# Altium integrated library Microchip Thermal Management.IntLib: 361 symbols (part 4 of 9)
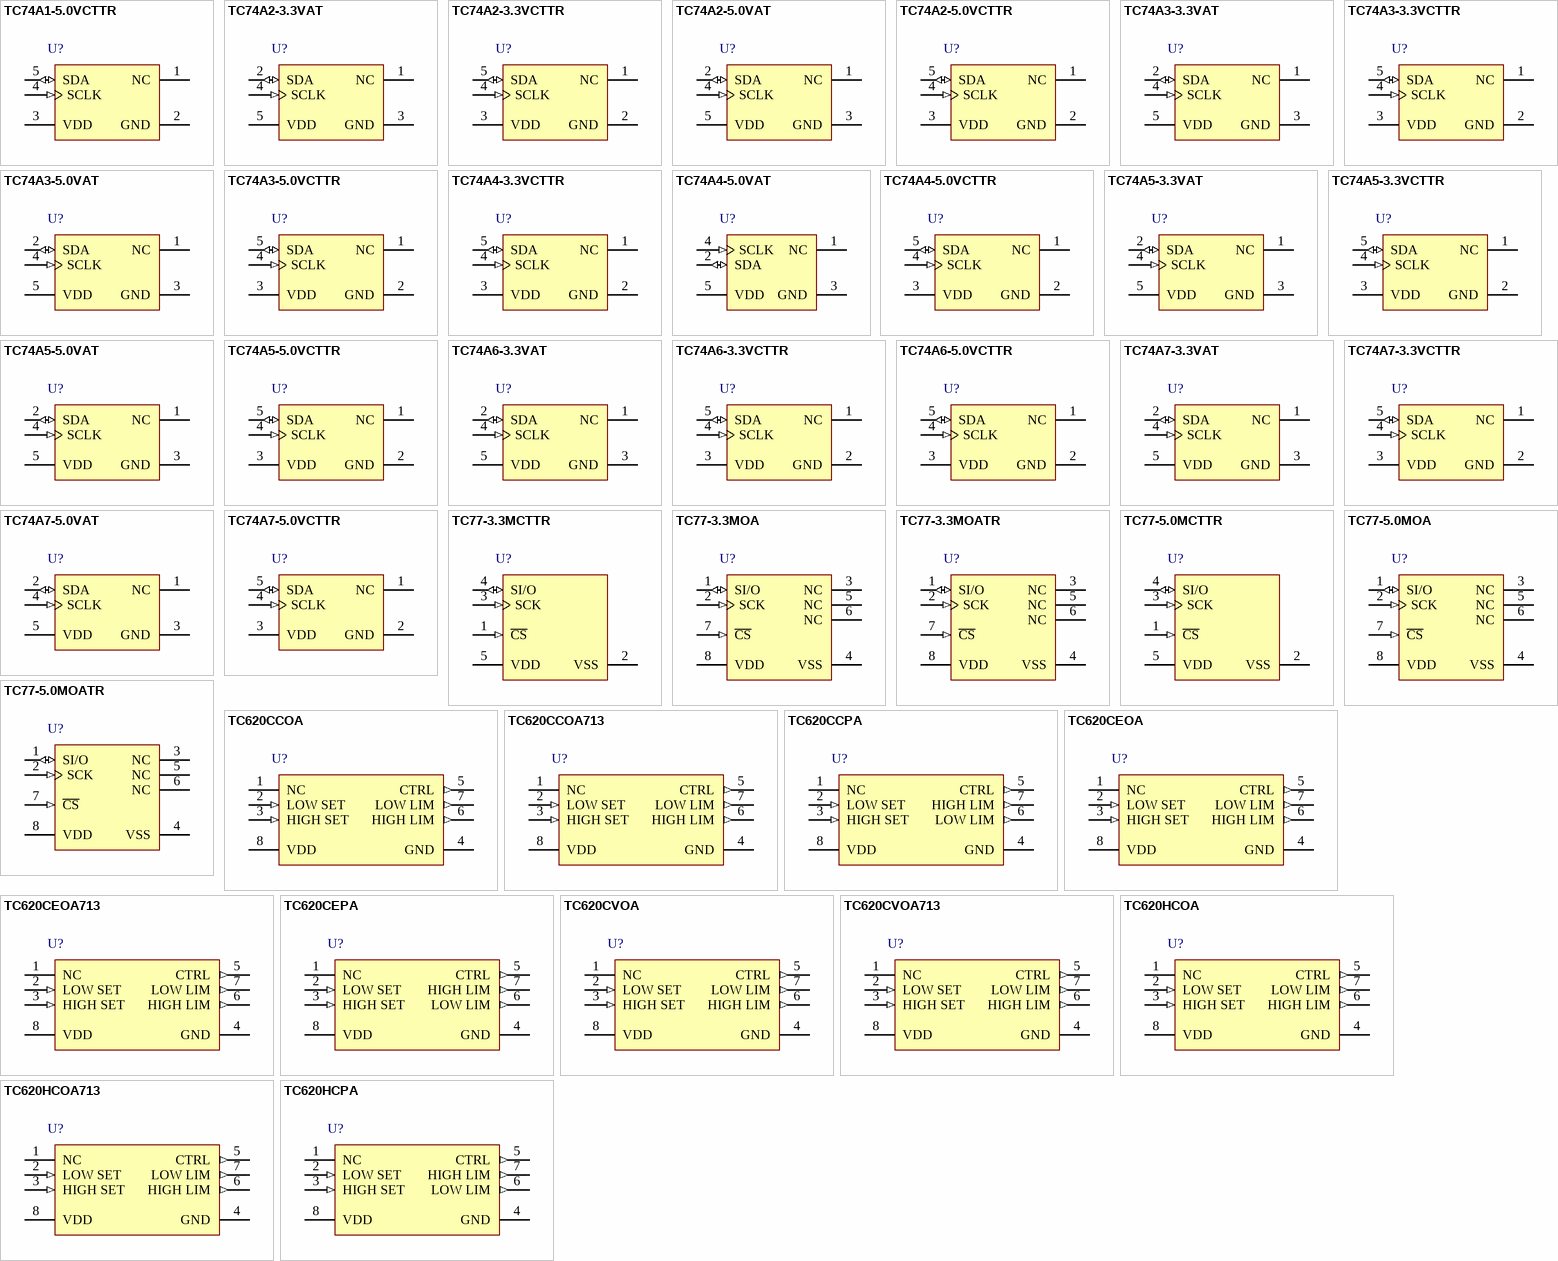
[diagram p12: symbols TC74A1-5.0VCTTR to TC620HCPA]

## TC74A3-3.3VAT
designator U?
Tiny Serial Digital Thermal Sensor, 5-Pin TO-220, Extended Temperature; Manufacturer: Microchip; PartNumber: TC74A3-3.3VAT; DatasheetVersion: revC, Oct-2002; PackageVersion: revBB, Aug-2009; PackageReference: TO-220-AT5; PackageDescription: 5-Lead Plastic Transistor Outline (AT) [TO-220]; Supplier 1: Digi-Key; Supplier Part Number 1: TC74A3-3.3VAT-ND; Mounting Technology: Through Hole; ComponentLink1Description: Manufacturer URL; ComponentLink1URL: http://www.microchip.com/; ComponentLink2Description: Datasheet; ComponentLink2URL: http://ww1.microchip.com/downloads/en/DeviceDoc/21462c.pdf; ComponentLink3Description: Package Specification; ComponentLink3URL: http://www.microchip.com/stellent/groups/techpub_sg/documents/packagingspec/en012702.pdf
footprint TO-220-AT5 (TO, Thru-Hole, Vertical, Heatsink Mounted; 5 In-Line Leads; Pitch 1.70 mm)
pins: 1 NC, 2 SDA (io), 3 GND (power), 4 SCLK (in), 5 VDD (power)

## TC74A3-3.3VCTTR
designator U?
Tiny Serial Digital Thermal Sensor, 5-Pin SOT-23, Extended Temperature, Tape and Reel; Manufacturer: Microchip; PartNumber: TC74A3-3.3VCTTR; DatasheetVersion: revC, Oct-2002; PackageVersion: revBB, Aug-2009; PackageReference: SOT-23-CT5; PackageDescription: 5-Lead Plastic Small Outline Transistor (CT) [SOT-23]; Supplier 1: Digi-Key; Supplier Part Number 1: TC74A3-3.3VCTTR-ND; Mounting Technology: Surface Mount; Code_IPC: SOT23-5; ComponentLink1Description: Manufacturer URL; ComponentLink1URL: http://www.microchip.com/; ComponentLink2Description: Datasheet; ComponentLink2URL: http://ww1.microchip.com/downloads/en/DeviceDoc/21462c.pdf; ComponentLink3Description: Package Specification; ComponentLink3URL: http://www.microchip.com/stellent/groups/techpub_sg/documents/packagingspec/en012702.pdf
footprint SOT-23-CT5_N (SOT23, 5-Leads, Body 2.9x1.6mm, Pitch 0.95mm, Lead Span 2.7mm, IPC Medium Density)
footprint SOT-23-CT5_L (SOT23, 5-Leads, Body 2.9x1.6mm, Pitch 0.95mm, Lead Span 2.7mm, IPC High Density)
footprint SOT-23-CT5_M (SOT23, 5-Leads, Body 2.9x1.6mm, Pitch 0.95mm, Lead Span 2.7mm, IPC Low Density)
pins: 1 NC, 2 GND (power), 3 VDD (power), 4 SCLK (in), 5 SDA (io)

## TC74A3-5.0VAT
designator U?
Tiny Serial Digital Thermal Sensor, 5-Pin TO-220, Extended Temperature; Manufacturer: Microchip; PartNumber: TC74A3-5.0VAT; DatasheetVersion: revC, Oct-2002; PackageVersion: revBB, Aug-2009; PackageReference: TO-220-AT5; PackageDescription: 5-Lead Plastic Transistor Outline (AT) [TO-220]; Supplier 1: Digi-Key; Supplier Part Number 1: TC74A3-5.0VAT-ND; Mounting Technology: Through Hole; ComponentLink1Description: Manufacturer URL; ComponentLink1URL: http://www.microchip.com/; ComponentLink2Description: Datasheet; ComponentLink2URL: http://ww1.microchip.com/downloads/en/DeviceDoc/21462c.pdf; ComponentLink3Description: Package Specification; ComponentLink3URL: http://www.microchip.com/stellent/groups/techpub_sg/documents/packagingspec/en012702.pdf
footprint TO-220-AT5 (TO, Thru-Hole, Vertical, Heatsink Mounted; 5 In-Line Leads; Pitch 1.70 mm)
pins: 1 NC, 2 SDA (io), 3 GND (power), 4 SCLK (in), 5 VDD (power)

## TC74A3-5.0VCTTR
designator U?
Tiny Serial Digital Thermal Sensor, 5-Pin SOT-23, Extended Temperature, Tape and Reel; Manufacturer: Microchip; PartNumber: TC74A3-5.0VCTTR; DatasheetVersion: revC, Oct-2002; PackageVersion: revBB, Aug-2009; PackageReference: SOT-23-CT5; PackageDescription: 5-Lead Plastic Small Outline Transistor (CT) [SOT-23]; Supplier 1: Digi-Key; Supplier Part Number 1: TC74A3-5.0VCTTR-ND; Mounting Technology: Surface Mount; Code_IPC: SOT23-5; ComponentLink1Description: Manufacturer URL; ComponentLink1URL: http://www.microchip.com/; ComponentLink2Description: Datasheet; ComponentLink2URL: http://ww1.microchip.com/downloads/en/DeviceDoc/21462c.pdf; ComponentLink3Description: Package Specification; ComponentLink3URL: http://www.microchip.com/stellent/groups/techpub_sg/documents/packagingspec/en012702.pdf
footprint SOT-23-CT5_N (SOT23, 5-Leads, Body 2.9x1.6mm, Pitch 0.95mm, Lead Span 2.7mm, IPC Medium Density)
footprint SOT-23-CT5_L (SOT23, 5-Leads, Body 2.9x1.6mm, Pitch 0.95mm, Lead Span 2.7mm, IPC High Density)
footprint SOT-23-CT5_M (SOT23, 5-Leads, Body 2.9x1.6mm, Pitch 0.95mm, Lead Span 2.7mm, IPC Low Density)
pins: 1 NC, 2 GND (power), 3 VDD (power), 4 SCLK (in), 5 SDA (io)

## TC74A4-3.3VCTTR
designator U?
Tiny Serial Digital Thermal Sensor, 5-Pin SOT-23, Extended Temperature, Tape and Reel; Manufacturer: Microchip; PartNumber: TC74A4-3.3VCTTR; DatasheetVersion: revC, Oct-2002; PackageVersion: revBB, Aug-2009; PackageReference: SOT-23-CT5; PackageDescription: 5-Lead Plastic Small Outline Transistor (CT) [SOT-23]; Supplier 1: Digi-Key; Supplier Part Number 1: TC74A4-3.3VCTTR-ND; Mounting Technology: Surface Mount; Code_IPC: SOT23-5; ComponentLink1Description: Manufacturer URL; ComponentLink1URL: http://www.microchip.com/; ComponentLink2Description: Datasheet; ComponentLink2URL: http://ww1.microchip.com/downloads/en/DeviceDoc/21462c.pdf; ComponentLink3Description: Package Specification; ComponentLink3URL: http://www.microchip.com/stellent/groups/techpub_sg/documents/packagingspec/en012702.pdf
footprint SOT-23-CT5_N (SOT23, 5-Leads, Body 2.9x1.6mm, Pitch 0.95mm, Lead Span 2.7mm, IPC Medium Density)
footprint SOT-23-CT5_L (SOT23, 5-Leads, Body 2.9x1.6mm, Pitch 0.95mm, Lead Span 2.7mm, IPC High Density)
footprint SOT-23-CT5_M (SOT23, 5-Leads, Body 2.9x1.6mm, Pitch 0.95mm, Lead Span 2.7mm, IPC Low Density)
pins: 1 NC, 2 GND (power), 3 VDD (power), 4 SCLK (in), 5 SDA (io)

## TC74A4-5.0VAT
designator U?
Tiny Serial Digital Thermal Sensor, 350 uA, 2.7 to 5.5 V, -40 to 125 degC, 5-pin TO-220 (AT5), Tube; Manufacturer: Microchip; PartNumber: TC74A4-5.0VAT; DatasheetVersion: Rev. C; PackageVersion: C04-036B; PackageReference: TO-220-AT5; PackageDescription: 5-Lead Plastic Transistor Outline, 8.7 x 10.16 mm Body, 1.702 mm Pitch; Supplier 1: Digi-Key; Supplier Part Number 1: TC74A4-5.0VAT-ND; Mounting Technology: Through Hole; ComponentLink1Description: Manufacturer URL; ComponentLink1URL: http://www.microchip.com; ComponentLink2Description: Datasheet; ComponentLink2URL: http://ww1.microchip.com/downloads/en/DeviceDoc/21462c.pdf; ComponentLink3Description: Package Specification; ComponentLink3URL: http://www.microchip.com/stellent/groups/techpub_sg/documents/packagingspec/en012702.pdf; ComponentLink4Description: Product URL; ComponentLink4URL: http://www.microchip.com/TC74
footprint MCHP-TO-220-AT5 (FM, 5-Leads, Body 10.16x8.7mm, Pitch 1.702mm)
pins: 1 NC "No Internal Connection", 2 SDA (io) "SMBus/I2C Serial Data", 3 GND (power) "System Ground", 4 SCLK (in) "SMBus/I2C Serial Clock", 5 VDD (power) "Power Supply Input"

## TC74A4-5.0VCTTR
designator U?
Tiny Serial Digital Thermal Sensor, 5-Pin SOT-23, Extended Temperature, Tape and Reel; Manufacturer: Microchip; PartNumber: TC74A4-5.0VCTTR; DatasheetVersion: revC, Oct-2002; PackageVersion: revBB, Aug-2009; PackageReference: SOT-23-CT5; PackageDescription: 5-Lead Plastic Small Outline Transistor (CT) [SOT-23]; Supplier 1: Digi-Key; Supplier Part Number 1: TC74A4-5.0VCTTR-ND; Mounting Technology: Surface Mount; Code_IPC: SOT23-5; ComponentLink1Description: Manufacturer URL; ComponentLink1URL: http://www.microchip.com/; ComponentLink2Description: Datasheet; ComponentLink2URL: http://ww1.microchip.com/downloads/en/DeviceDoc/21462c.pdf; ComponentLink3Description: Package Specification; ComponentLink3URL: http://www.microchip.com/stellent/groups/techpub_sg/documents/packagingspec/en012702.pdf
footprint SOT-23-CT5_N (SOT23, 5-Leads, Body 2.9x1.6mm, Pitch 0.95mm, Lead Span 2.7mm, IPC Medium Density)
footprint SOT-23-CT5_L (SOT23, 5-Leads, Body 2.9x1.6mm, Pitch 0.95mm, Lead Span 2.7mm, IPC High Density)
footprint SOT-23-CT5_M (SOT23, 5-Leads, Body 2.9x1.6mm, Pitch 0.95mm, Lead Span 2.7mm, IPC Low Density)
pins: 1 NC, 2 GND (power), 3 VDD (power), 4 SCLK (in), 5 SDA (io)

## TC74A5-3.3VAT
designator U?
Tiny Serial Digital Thermal Sensor, 5-Pin TO-220, Extended Temperature; Manufacturer: Microchip; PartNumber: TC74A5-3.3VAT; DatasheetVersion: revC, Oct-2002; PackageVersion: revBB, Aug-2009; PackageReference: TO-220-AT5; PackageDescription: 5-Lead Plastic Transistor Outline (AT) [TO-220]; Supplier 1: Digi-Key; Supplier Part Number 1: TC74A5-3.3VAT-ND; Mounting Technology: Through Hole; ComponentLink1Description: Manufacturer URL; ComponentLink1URL: http://www.microchip.com/; ComponentLink2Description: Datasheet; ComponentLink2URL: http://ww1.microchip.com/downloads/en/DeviceDoc/21462c.pdf; ComponentLink3Description: Package Specification; ComponentLink3URL: http://www.microchip.com/stellent/groups/techpub_sg/documents/packagingspec/en012702.pdf
footprint TO-220-AT5 (TO, Thru-Hole, Vertical, Heatsink Mounted; 5 In-Line Leads; Pitch 1.70 mm)
pins: 1 NC, 2 SDA (io), 3 GND (power), 4 SCLK (in), 5 VDD (power)

## TC74A5-3.3VCTTR
designator U?
Tiny Serial Digital Thermal Sensor, 5-Pin SOT-23, Extended Temperature, Tape and Reel; Manufacturer: Microchip; PartNumber: TC74A5-3.3VCTTR; DatasheetVersion: revC, Oct-2002; PackageVersion: revBB, Aug-2009; PackageReference: SOT-23-CT5; PackageDescription: 5-Lead Plastic Small Outline Transistor (CT) [SOT-23]; Supplier 1: Digi-Key; Supplier Part Number 1: TC74A5-3.3VCTTR-ND; Mounting Technology: Surface Mount; Code_IPC: SOT23-5; ComponentLink1Description: Manufacturer URL; ComponentLink1URL: http://www.microchip.com/; ComponentLink2Description: Datasheet; ComponentLink2URL: http://ww1.microchip.com/downloads/en/DeviceDoc/21462c.pdf; ComponentLink3Description: Package Specification; ComponentLink3URL: http://www.microchip.com/stellent/groups/techpub_sg/documents/packagingspec/en012702.pdf
footprint SOT-23-CT5_N (SOT23, 5-Leads, Body 2.9x1.6mm, Pitch 0.95mm, Lead Span 2.7mm, IPC Medium Density)
footprint SOT-23-CT5_L (SOT23, 5-Leads, Body 2.9x1.6mm, Pitch 0.95mm, Lead Span 2.7mm, IPC High Density)
footprint SOT-23-CT5_M (SOT23, 5-Leads, Body 2.9x1.6mm, Pitch 0.95mm, Lead Span 2.7mm, IPC Low Density)
pins: 1 NC, 2 GND (power), 3 VDD (power), 4 SCLK (in), 5 SDA (io)

## TC74A5-5.0VAT
designator U?
Tiny Serial Digital Thermal Sensor, 5-Pin TO-220, Extended Temperature; Manufacturer: Microchip; PartNumber: TC74A5-5.0VAT; DatasheetVersion: revC, Oct-2002; PackageVersion: revBB, Aug-2009; PackageReference: TO-220-AT5; PackageDescription: 5-Lead Plastic Transistor Outline (AT) [TO-220]; Supplier 1: Digi-Key; Supplier Part Number 1: TC74A5-5.0VAT-ND; Mounting Technology: Through Hole; ComponentLink1Description: Manufacturer URL; ComponentLink1URL: http://www.microchip.com/; ComponentLink2Description: Datasheet; ComponentLink2URL: http://ww1.microchip.com/downloads/en/DeviceDoc/21462c.pdf; ComponentLink3Description: Package Specification; ComponentLink3URL: http://www.microchip.com/stellent/groups/techpub_sg/documents/packagingspec/en012702.pdf
footprint TO-220-AT5 (TO, Thru-Hole, Vertical, Heatsink Mounted; 5 In-Line Leads; Pitch 1.70 mm)
pins: 1 NC, 2 SDA (io), 3 GND (power), 4 SCLK (in), 5 VDD (power)

## TC74A5-5.0VCTTR
designator U?
Tiny Serial Digital Thermal Sensor, 5-Pin SOT-23, Extended Temperature, Tape and Reel; Manufacturer: Microchip; PartNumber: TC74A5-5.0VCTTR; DatasheetVersion: revC, Oct-2002; PackageVersion: revBB, Aug-2009; PackageReference: SOT-23-CT5; PackageDescription: 5-Lead Plastic Small Outline Transistor (CT) [SOT-23]; Supplier 1: Digi-Key; Supplier Part Number 1: TC74A5-5.0VCTTR-ND; Mounting Technology: Surface Mount; Code_IPC: SOT23-5; ComponentLink1Description: Manufacturer URL; ComponentLink1URL: http://www.microchip.com/; ComponentLink2Description: Datasheet; ComponentLink2URL: http://ww1.microchip.com/downloads/en/DeviceDoc/21462c.pdf; ComponentLink3Description: Package Specification; ComponentLink3URL: http://www.microchip.com/stellent/groups/techpub_sg/documents/packagingspec/en012702.pdf
footprint SOT-23-CT5_N (SOT23, 5-Leads, Body 2.9x1.6mm, Pitch 0.95mm, Lead Span 2.7mm, IPC Medium Density)
footprint SOT-23-CT5_L (SOT23, 5-Leads, Body 2.9x1.6mm, Pitch 0.95mm, Lead Span 2.7mm, IPC High Density)
footprint SOT-23-CT5_M (SOT23, 5-Leads, Body 2.9x1.6mm, Pitch 0.95mm, Lead Span 2.7mm, IPC Low Density)
pins: 1 NC, 2 GND (power), 3 VDD (power), 4 SCLK (in), 5 SDA (io)

## TC74A6-3.3VAT
designator U?
Tiny Serial Digital Thermal Sensor, 5-Pin TO-220, Extended Temperature; Manufacturer: Microchip; PartNumber: TC74A6-3.3VAT; DatasheetVersion: revC, Oct-2002; PackageVersion: revBB, Aug-2009; PackageReference: TO-220-AT5; PackageDescription: 5-Lead Plastic Transistor Outline (AT) [TO-220]; Supplier 1: Digi-Key; Supplier Part Number 1: TC74A6-3.3VAT-ND; Mounting Technology: Through Hole; ComponentLink1Description: Manufacturer URL; ComponentLink1URL: http://www.microchip.com/; ComponentLink2Description: Datasheet; ComponentLink2URL: http://ww1.microchip.com/downloads/en/DeviceDoc/21462c.pdf; ComponentLink3Description: Package Specification; ComponentLink3URL: http://www.microchip.com/stellent/groups/techpub_sg/documents/packagingspec/en012702.pdf
footprint TO-220-AT5 (TO, Thru-Hole, Vertical, Heatsink Mounted; 5 In-Line Leads; Pitch 1.70 mm)
pins: 1 NC, 2 SDA (io), 3 GND (power), 4 SCLK (in), 5 VDD (power)

## TC74A6-3.3VCTTR
designator U?
Tiny Serial Digital Thermal Sensor, 5-Pin SOT-23, Extended Temperature, Tape and Reel; Manufacturer: Microchip; PartNumber: TC74A6-3.3VCTTR; DatasheetVersion: revC, Oct-2002; PackageVersion: revBB, Aug-2009; PackageReference: SOT-23-CT5; PackageDescription: 5-Lead Plastic Small Outline Transistor (CT) [SOT-23]; Supplier 1: Digi-Key; Supplier Part Number 1: TC74A6-3.3VCTTR-ND; Mounting Technology: Surface Mount; Code_IPC: SOT23-5; ComponentLink1Description: Manufacturer URL; ComponentLink1URL: http://www.microchip.com/; ComponentLink2Description: Datasheet; ComponentLink2URL: http://ww1.microchip.com/downloads/en/DeviceDoc/21462c.pdf; ComponentLink3Description: Package Specification; ComponentLink3URL: http://www.microchip.com/stellent/groups/techpub_sg/documents/packagingspec/en012702.pdf
footprint SOT-23-CT5_N (SOT23, 5-Leads, Body 2.9x1.6mm, Pitch 0.95mm, Lead Span 2.7mm, IPC Medium Density)
footprint SOT-23-CT5_L (SOT23, 5-Leads, Body 2.9x1.6mm, Pitch 0.95mm, Lead Span 2.7mm, IPC High Density)
footprint SOT-23-CT5_M (SOT23, 5-Leads, Body 2.9x1.6mm, Pitch 0.95mm, Lead Span 2.7mm, IPC Low Density)
pins: 1 NC, 2 GND (power), 3 VDD (power), 4 SCLK (in), 5 SDA (io)

## TC74A6-5.0VCTTR
designator U?
Tiny Serial Digital Thermal Sensor, 5-Pin SOT-23, Extended Temperature, Tape and Reel; Manufacturer: Microchip; PartNumber: TC74A6-5.0VCTTR; DatasheetVersion: revC, Oct-2002; PackageVersion: revBB, Aug-2009; PackageReference: SOT-23-CT5; PackageDescription: 5-Lead Plastic Small Outline Transistor (CT) [SOT-23]; Supplier 1: Digi-Key; Supplier Part Number 1: TC74A6-5.0VCTTR-ND; Mounting Technology: Surface Mount; Code_IPC: SOT23-5; ComponentLink1Description: Manufacturer URL; ComponentLink1URL: http://www.microchip.com/; ComponentLink2Description: Datasheet; ComponentLink2URL: http://ww1.microchip.com/downloads/en/DeviceDoc/21462c.pdf; ComponentLink3Description: Package Specification; ComponentLink3URL: http://www.microchip.com/stellent/groups/techpub_sg/documents/packagingspec/en012702.pdf
footprint SOT-23-CT5_N (SOT23, 5-Leads, Body 2.9x1.6mm, Pitch 0.95mm, Lead Span 2.7mm, IPC Medium Density)
footprint SOT-23-CT5_L (SOT23, 5-Leads, Body 2.9x1.6mm, Pitch 0.95mm, Lead Span 2.7mm, IPC High Density)
footprint SOT-23-CT5_M (SOT23, 5-Leads, Body 2.9x1.6mm, Pitch 0.95mm, Lead Span 2.7mm, IPC Low Density)
pins: 1 NC, 2 GND (power), 3 VDD (power), 4 SCLK (in), 5 SDA (io)

## TC74A7-3.3VAT
designator U?
Tiny Serial Digital Thermal Sensor, 5-Pin TO-220, Extended Temperature; Manufacturer: Microchip; PartNumber: TC74A7-3.3VAT; DatasheetVersion: revC, Oct-2002; PackageVersion: revBB, Aug-2009; PackageReference: TO-220-AT5; PackageDescription: 5-Lead Plastic Transistor Outline (AT) [TO-220]; Supplier 1: Digi-Key; Supplier Part Number 1: TC74A7-3.3VAT-ND; Mounting Technology: Through Hole; ComponentLink1Description: Manufacturer URL; ComponentLink1URL: http://www.microchip.com/; ComponentLink2Description: Datasheet; ComponentLink2URL: http://ww1.microchip.com/downloads/en/DeviceDoc/21462c.pdf; ComponentLink3Description: Package Specification; ComponentLink3URL: http://www.microchip.com/stellent/groups/techpub_sg/documents/packagingspec/en012702.pdf
footprint TO-220-AT5 (TO, Thru-Hole, Vertical, Heatsink Mounted; 5 In-Line Leads; Pitch 1.70 mm)
pins: 1 NC, 2 SDA (io), 3 GND (power), 4 SCLK (in), 5 VDD (power)

## TC74A7-3.3VCTTR
designator U?
Tiny Serial Digital Thermal Sensor, 5-Pin SOT-23, Extended Temperature, Tape and Reel; Manufacturer: Microchip; PartNumber: TC74A7-3.3VCTTR; DatasheetVersion: revC, Oct-2002; PackageVersion: revBB, Aug-2009; PackageReference: SOT-23-CT5; PackageDescription: 5-Lead Plastic Small Outline Transistor (CT) [SOT-23]; Supplier 1: Digi-Key; Supplier Part Number 1: TC74A7-3.3VCTTR-ND; Mounting Technology: Surface Mount; Code_IPC: SOT23-5; ComponentLink1Description: Manufacturer URL; ComponentLink1URL: http://www.microchip.com/; ComponentLink2Description: Datasheet; ComponentLink2URL: http://ww1.microchip.com/downloads/en/DeviceDoc/21462c.pdf; ComponentLink3Description: Package Specification; ComponentLink3URL: http://www.microchip.com/stellent/groups/techpub_sg/documents/packagingspec/en012702.pdf
footprint SOT-23-CT5_N (SOT23, 5-Leads, Body 2.9x1.6mm, Pitch 0.95mm, Lead Span 2.7mm, IPC Medium Density)
footprint SOT-23-CT5_L (SOT23, 5-Leads, Body 2.9x1.6mm, Pitch 0.95mm, Lead Span 2.7mm, IPC High Density)
footprint SOT-23-CT5_M (SOT23, 5-Leads, Body 2.9x1.6mm, Pitch 0.95mm, Lead Span 2.7mm, IPC Low Density)
pins: 1 NC, 2 GND (power), 3 VDD (power), 4 SCLK (in), 5 SDA (io)

## TC74A7-5.0VAT
designator U?
Tiny Serial Digital Thermal Sensor, 5-Pin TO-220, Extended Temperature; Manufacturer: Microchip; PartNumber: TC74A7-5.0VAT; DatasheetVersion: revC, Oct-2002; PackageVersion: revBB, Aug-2009; PackageReference: TO-220-AT5; PackageDescription: 5-Lead Plastic Transistor Outline (AT) [TO-220]; Supplier 1: Digi-Key; Supplier Part Number 1: TC74A7-5.0VAT-ND; Mounting Technology: Through Hole; ComponentLink1Description: Manufacturer URL; ComponentLink1URL: http://www.microchip.com/; ComponentLink2Description: Datasheet; ComponentLink2URL: http://ww1.microchip.com/downloads/en/DeviceDoc/21462c.pdf; ComponentLink3Description: Package Specification; ComponentLink3URL: http://www.microchip.com/stellent/groups/techpub_sg/documents/packagingspec/en012702.pdf
footprint TO-220-AT5 (TO, Thru-Hole, Vertical, Heatsink Mounted; 5 In-Line Leads; Pitch 1.70 mm)
pins: 1 NC, 2 SDA (io), 3 GND (power), 4 SCLK (in), 5 VDD (power)

## TC74A7-5.0VCTTR
designator U?
Tiny Serial Digital Thermal Sensor, 5-Pin SOT-23, Extended Temperature, Tape and Reel; Manufacturer: Microchip; PartNumber: TC74A7-5.0VCTTR; DatasheetVersion: revC, Oct-2002; PackageVersion: revBB, Aug-2009; PackageReference: SOT-23-CT5; PackageDescription: 5-Lead Plastic Small Outline Transistor (CT) [SOT-23]; Supplier 1: Digi-Key; Supplier Part Number 1: TC74A7-5.0VCTTR-ND; Mounting Technology: Surface Mount; Code_IPC: SOT23-5; ComponentLink1Description: Manufacturer URL; ComponentLink1URL: http://www.microchip.com/; ComponentLink2Description: Datasheet; ComponentLink2URL: http://ww1.microchip.com/downloads/en/DeviceDoc/21462c.pdf; ComponentLink3Description: Package Specification; ComponentLink3URL: http://www.microchip.com/stellent/groups/techpub_sg/documents/packagingspec/en012702.pdf
footprint SOT-23-CT5_N (SOT23, 5-Leads, Body 2.9x1.6mm, Pitch 0.95mm, Lead Span 2.7mm, IPC Medium Density)
footprint SOT-23-CT5_L (SOT23, 5-Leads, Body 2.9x1.6mm, Pitch 0.95mm, Lead Span 2.7mm, IPC High Density)
footprint SOT-23-CT5_M (SOT23, 5-Leads, Body 2.9x1.6mm, Pitch 0.95mm, Lead Span 2.7mm, IPC Low Density)
pins: 1 NC, 2 GND (power), 3 VDD (power), 4 SCLK (in), 5 SDA (io)

## TC77-3.3MCTTR
designator U?
Thermal Sensor with SPI Interface, 5-Pin SOT-23, -55°C to +125°C Temperature, Tape and Reel; Manufacturer: Microchip; PartNumber: TC77-3.3MCTTR; DatasheetVersion: revA, Aug-2002; PackageVersion: revBB, Aug-2009; PackageReference: SOT-23-CT5; PackageDescription: 5-Lead Plastic Small Outline Transistor (CT) [SOT-23]; Supplier 1: Digi-Key; Supplier Part Number 1: TC77-3.3MCTTRTR-ND; Mounting Technology: Surface Mount; Code_IPC: SOT23-5; ComponentLink1Description: Manufacturer URL; ComponentLink1URL: http://www.microchip.com/; ComponentLink2Description: Datasheet; ComponentLink2URL: http://ww1.microchip.com/downloads/en/DeviceDoc/20092a.pdf; ComponentLink3Description: Package Specification; ComponentLink3URL: http://www.microchip.com/stellent/groups/techpub_sg/documents/packagingspec/en012702.pdf
footprint SOT-23-CT5_N (SOT23, 5-Leads, Body 2.9x1.6mm, Pitch 0.95mm, Lead Span 2.7mm, IPC Medium Density)
footprint SOT-23-CT5_L (SOT23, 5-Leads, Body 2.9x1.6mm, Pitch 0.95mm, Lead Span 2.7mm, IPC High Density)
footprint SOT-23-CT5_M (SOT23, 5-Leads, Body 2.9x1.6mm, Pitch 0.95mm, Lead Span 2.7mm, IPC Low Density)
pins: 1 ~{CS} (in), 2 VSS (power), 3 SCK (in), 4 SI/O (io), 5 VDD (power)

## TC77-3.3MOA
designator U?
Thermal Sensor with SPI Interface, 8-Pin SOIC, -55°C to +125°C Temperature; Manufacturer: Microchip; PartNumber: TC77-3.3MOA; DatasheetVersion: revA, Aug-2002; PackageVersion: revBB, Aug-2009; PackageReference: SOIC-OA8; PackageDescription: 8-Lead Plastic Small Outline (OA) - Narrow, 3.90mm Body [SOIC]; Supplier 1: Digi-Key; Supplier Part Number 1: TC77-3.3MOA-ND; Mounting Technology: Surface Mount; Code_IPC: SOIC127P600-8; ComponentLink1Description: Manufacturer URL; ComponentLink1URL: http://www.microchip.com/; ComponentLink2Description: Datasheet; ComponentLink2URL: http://ww1.microchip.com/downloads/en/DeviceDoc/20092a.pdf; ComponentLink3Description: Package Specification; ComponentLink3URL: http://www.microchip.com/stellent/groups/techpub_sg/documents/packagingspec/en012702.pdf
footprint SOIC-OA8_N (SOIC, 8-Leads, Body 4.9x3.9mm, Pitch 1.27mm, IPC Medium Density)
footprint SOIC-OA8_L (SOIC, 8-Leads, Body 4.9x3.9mm, Pitch 1.27mm, IPC High Density)
footprint SOIC-OA8_M (SOIC, 8-Leads, Body 4.9x3.9mm, Pitch 1.27mm, IPC Low Density)
pins: 1 SI/O (io), 2 SCK (in), 3 NC, 4 VSS (power), 5 NC, 6 NC, 7 ~{CS} (in), 8 VDD (power)

## TC77-3.3MOATR
designator U?
Thermal Sensor with SPI Interface, 8-Pin SOIC, -55°C to +125°C Temperature, Tape and Reel; Manufacturer: Microchip; PartNumber: TC77-3.3MOATR; DatasheetVersion: revA, Aug-2002; PackageVersion: revBB, Aug-2009; PackageReference: SOIC-OA8; PackageDescription: 8-Lead Plastic Small Outline (OA) - Narrow, 3.90mm Body [SOIC]; Supplier 1: Digi-Key; Supplier Part Number 1: TC77-3.3MOATR-ND; Mounting Technology: Surface Mount; Code_IPC: SOIC127P600-8; ComponentLink1Description: Manufacturer URL; ComponentLink1URL: http://www.microchip.com/; ComponentLink2Description: Datasheet; ComponentLink2URL: http://ww1.microchip.com/downloads/en/DeviceDoc/20092a.pdf; ComponentLink3Description: Package Specification; ComponentLink3URL: http://www.microchip.com/stellent/groups/techpub_sg/documents/packagingspec/en012702.pdf
footprint SOIC-OA8_N (SOIC, 8-Leads, Body 4.9x3.9mm, Pitch 1.27mm, IPC Medium Density)
footprint SOIC-OA8_L (SOIC, 8-Leads, Body 4.9x3.9mm, Pitch 1.27mm, IPC High Density)
footprint SOIC-OA8_M (SOIC, 8-Leads, Body 4.9x3.9mm, Pitch 1.27mm, IPC Low Density)
pins: 1 SI/O (io), 2 SCK (in), 3 NC, 4 VSS (power), 5 NC, 6 NC, 7 ~{CS} (in), 8 VDD (power)

## TC77-5.0MCTTR
designator U?
Thermal Sensor with SPI Interface, 5-Pin SOT-23, -55°C to +125°C Temperature, Tape and Reel; Manufacturer: Microchip; PartNumber: TC77-5.0MCTTR; DatasheetVersion: revA, Aug-2002; PackageVersion: revBB, Aug-2009; PackageReference: SOT-23-CT5; PackageDescription: 5-Lead Plastic Small Outline Transistor (CT) [SOT-23]; Supplier 1: Digi-Key; Supplier Part Number 1: TC77-5.0MCTTRTR-ND; Mounting Technology: Surface Mount; Code_IPC: SOT23-5; ComponentLink1Description: Manufacturer URL; ComponentLink1URL: http://www.microchip.com/; ComponentLink2Description: Datasheet; ComponentLink2URL: http://ww1.microchip.com/downloads/en/DeviceDoc/20092a.pdf; ComponentLink3Description: Package Specification; ComponentLink3URL: http://www.microchip.com/stellent/groups/techpub_sg/documents/packagingspec/en012702.pdf
footprint SOT-23-CT5_N (SOT23, 5-Leads, Body 2.9x1.6mm, Pitch 0.95mm, Lead Span 2.7mm, IPC Medium Density)
footprint SOT-23-CT5_L (SOT23, 5-Leads, Body 2.9x1.6mm, Pitch 0.95mm, Lead Span 2.7mm, IPC High Density)
footprint SOT-23-CT5_M (SOT23, 5-Leads, Body 2.9x1.6mm, Pitch 0.95mm, Lead Span 2.7mm, IPC Low Density)
pins: 1 ~{CS} (in), 2 VSS (power), 3 SCK (in), 4 SI/O (io), 5 VDD (power)

## TC77-5.0MOA
designator U?
Thermal Sensor with SPI Interface, 8-Pin SOIC, -55°C to +125°C Temperature; Manufacturer: Microchip; PartNumber: TC77-5.0MOA; DatasheetVersion: revA, Aug-2002; PackageVersion: revBB, Aug-2009; PackageReference: SOIC-OA8; PackageDescription: 8-Lead Plastic Small Outline (OA) - Narrow, 3.90mm Body [SOIC]; Supplier 1: Digi-Key; Supplier Part Number 1: TC77-5.0MOA-ND; Mounting Technology: Surface Mount; Code_IPC: SOIC127P600-8; ComponentLink1Description: Manufacturer URL; ComponentLink1URL: http://www.microchip.com/; ComponentLink2Description: Datasheet; ComponentLink2URL: http://ww1.microchip.com/downloads/en/DeviceDoc/20092a.pdf; ComponentLink3Description: Package Specification; ComponentLink3URL: http://www.microchip.com/stellent/groups/techpub_sg/documents/packagingspec/en012702.pdf
footprint SOIC-OA8_N (SOIC, 8-Leads, Body 4.9x3.9mm, Pitch 1.27mm, IPC Medium Density)
footprint SOIC-OA8_L (SOIC, 8-Leads, Body 4.9x3.9mm, Pitch 1.27mm, IPC High Density)
footprint SOIC-OA8_M (SOIC, 8-Leads, Body 4.9x3.9mm, Pitch 1.27mm, IPC Low Density)
pins: 1 SI/O (io), 2 SCK (in), 3 NC, 4 VSS (power), 5 NC, 6 NC, 7 ~{CS} (in), 8 VDD (power)

## TC77-5.0MOATR
designator U?
Thermal Sensor with SPI Interface, 8-Pin SOIC, -55°C to +125°C Temperature, Tape and Reel; Manufacturer: Microchip; PartNumber: TC77-5.0MOATR; DatasheetVersion: revA, Aug-2002; PackageVersion: revBB, Aug-2009; PackageReference: SOIC-OA8; PackageDescription: 8-Lead Plastic Small Outline (OA) - Narrow, 3.90mm Body [SOIC]; Supplier 1: Digi-Key; Supplier Part Number 1: TC77-5.0MOATR-ND; Mounting Technology: Surface Mount; Code_IPC: SOIC127P600-8; ComponentLink1Description: Manufacturer URL; ComponentLink1URL: http://www.microchip.com/; ComponentLink2Description: Datasheet; ComponentLink2URL: http://ww1.microchip.com/downloads/en/DeviceDoc/20092a.pdf; ComponentLink3Description: Package Specification; ComponentLink3URL: http://www.microchip.com/stellent/groups/techpub_sg/documents/packagingspec/en012702.pdf
footprint SOIC-OA8_N (SOIC, 8-Leads, Body 4.9x3.9mm, Pitch 1.27mm, IPC Medium Density)
footprint SOIC-OA8_L (SOIC, 8-Leads, Body 4.9x3.9mm, Pitch 1.27mm, IPC High Density)
footprint SOIC-OA8_M (SOIC, 8-Leads, Body 4.9x3.9mm, Pitch 1.27mm, IPC Low Density)
pins: 1 SI/O (io), 2 SCK (in), 3 NC, 4 VSS (power), 5 NC, 6 NC, 7 ~{CS} (in), 8 VDD (power)

## TC620CCOA
designator U?
5V, Dual Trip Point Temperature Sensor, 8-Pin SOIC, Commercial Temperature; Manufacturer: Microchip; PartNumber: TC620CCOA; DatasheetVersion: revC, Oct-2005; PackageVersion: revBB, Aug-2009; PackageReference: SOIC-OA8; PackageDescription: 8-Lead Plastic Small Outline (OA) - Narrow, 3.90mm Body [SOIC]; Supplier 1: Digi-Key; Supplier Part Number 1: TC620CCOA-ND; Mounting Technology: Surface Mount; Code_IPC: SOIC127P600-8; ComponentLink1Description: Manufacturer URL; ComponentLink1URL: http://www.microchip.com/; ComponentLink2Description: Datasheet; ComponentLink2URL: http://ww1.microchip.com/downloads/en/DeviceDoc/21439C.pdf; ComponentLink3Description: Package Specification; ComponentLink3URL: http://www.microchip.com/stellent/groups/techpub_sg/documents/packagingspec/en012702.pdf
footprint SOIC-OA8_N (SOIC, 8-Leads, Body 4.9x3.9mm, Pitch 1.27mm, IPC Medium Density)
footprint SOIC-OA8_L (SOIC, 8-Leads, Body 4.9x3.9mm, Pitch 1.27mm, IPC High Density)
footprint SOIC-OA8_M (SOIC, 8-Leads, Body 4.9x3.9mm, Pitch 1.27mm, IPC Low Density)
pins: 1 NC, 2 LOW SET (in), 3 HIGH SET (in), 4 GND (power), 5 CTRL (out), 6 HIGH LIM (out), 7 LOW LIM (out), 8 VDD (power)

## TC620CCOA713
designator U?
5V, Dual Trip Point Temperature Sensor, 8-Pin SOIC, Commercial Temperature, Tape and Reel; Manufacturer: Microchip; PartNumber: TC620CCOA713; DatasheetVersion: revC, Oct-2005; PackageVersion: revBB, Aug-2009; PackageReference: SOIC-OA8; PackageDescription: 8-Lead Plastic Small Outline (OA) - Narrow, 3.90mm Body [SOIC]; Supplier 1: Digi-Key; Supplier Part Number 1: TC620CCOA713-ND; Mounting Technology: Surface Mount; Code_IPC: SOIC127P600-8; ComponentLink1Description: Manufacturer URL; ComponentLink1URL: http://www.microchip.com/; ComponentLink2Description: Datasheet; ComponentLink2URL: http://ww1.microchip.com/downloads/en/DeviceDoc/21439C.pdf; ComponentLink3Description: Package Specification; ComponentLink3URL: http://www.microchip.com/stellent/groups/techpub_sg/documents/packagingspec/en012702.pdf
footprint SOIC-OA8_N (SOIC, 8-Leads, Body 4.9x3.9mm, Pitch 1.27mm, IPC Medium Density)
footprint SOIC-OA8_L (SOIC, 8-Leads, Body 4.9x3.9mm, Pitch 1.27mm, IPC High Density)
footprint SOIC-OA8_M (SOIC, 8-Leads, Body 4.9x3.9mm, Pitch 1.27mm, IPC Low Density)
pins: 1 NC, 2 LOW SET (in), 3 HIGH SET (in), 4 GND (power), 5 CTRL (out), 6 HIGH LIM (out), 7 LOW LIM (out), 8 VDD (power)

## TC620CCPA
designator U?
5V, Dual Trip Point Temperature Sensor, 8-Pin PDIP, Commercial Temperature; Manufacturer: Microchip; PartNumber: TC620CCPA; DatasheetVersion: revC, Oct-2005; PackageVersion: revBB, Aug-2009; PackageReference: PDIP300-PA8; PackageDescription: 8-Lead Plastic Dual In-Line (PA) - 300 mil Body [PDIP]; Supplier 1: Digi-Key; Supplier Part Number 1: TC620CCPA-ND; Mounting Technology: Through Hole; Code_JEDEC: MS-001-BA; ComponentLink1Description: Manufacturer URL; ComponentLink1URL: http://www.microchip.com/; ComponentLink2Description: Datasheet; ComponentLink2URL: http://ww1.microchip.com/downloads/en/DeviceDoc/21439C.pdf; ComponentLink3Description: Package Specification; ComponentLink3URL: http://www.microchip.com/stellent/groups/techpub_sg/documents/packagingspec/en012702.pdf
footprint PDIP300-PA8 (DIP, 8-Leads, Row Spacing 7.62mm, Pitch 2.54mm, Body 9.5x6.6mm)
pins: 1 NC, 2 LOW SET (in), 3 HIGH SET (in), 4 GND (power), 5 CTRL (out), 6 LOW LIM (out), 7 HIGH LIM (out), 8 VDD (power)

## TC620CEOA
designator U?
5V, Dual Trip Point Temperature Sensor, 8-Pin SOIC, Industrial Temperature; Manufacturer: Microchip; PartNumber: TC620CEOA; DatasheetVersion: revC, Oct-2005; PackageVersion: revBB, Aug-2009; PackageReference: SOIC-OA8; PackageDescription: 8-Lead Plastic Small Outline (OA) - Narrow, 3.90mm Body [SOIC]; Supplier 1: Digi-Key; Supplier Part Number 1: TC620CEOA-ND; Mounting Technology: Surface Mount; Code_IPC: SOIC127P600-8; ComponentLink1Description: Manufacturer URL; ComponentLink1URL: http://www.microchip.com/; ComponentLink2Description: Datasheet; ComponentLink2URL: http://ww1.microchip.com/downloads/en/DeviceDoc/21439C.pdf; ComponentLink3Description: Package Specification; ComponentLink3URL: http://www.microchip.com/stellent/groups/techpub_sg/documents/packagingspec/en012702.pdf
footprint SOIC-OA8_N (SOIC, 8-Leads, Body 4.9x3.9mm, Pitch 1.27mm, IPC Medium Density)
footprint SOIC-OA8_L (SOIC, 8-Leads, Body 4.9x3.9mm, Pitch 1.27mm, IPC High Density)
footprint SOIC-OA8_M (SOIC, 8-Leads, Body 4.9x3.9mm, Pitch 1.27mm, IPC Low Density)
pins: 1 NC, 2 LOW SET (in), 3 HIGH SET (in), 4 GND (power), 5 CTRL (out), 6 HIGH LIM (out), 7 LOW LIM (out), 8 VDD (power)

## TC620CEOA713
designator U?
5V, Dual Trip Point Temperature Sensor, 8-Pin SOIC, Industrial Temperature, Tape and Reel; Manufacturer: Microchip; PartNumber: TC620CEOA713; DatasheetVersion: revC, Oct-2005; PackageVersion: revBB, Aug-2009; PackageReference: SOIC-OA8; PackageDescription: 8-Lead Plastic Small Outline (OA) - Narrow, 3.90mm Body [SOIC]; Supplier 1: Digi-Key; Supplier Part Number 1: TC620CEOA713-ND; Mounting Technology: Surface Mount; Code_IPC: SOIC127P600-8; ComponentLink1Description: Manufacturer URL; ComponentLink1URL: http://www.microchip.com/; ComponentLink2Description: Datasheet; ComponentLink2URL: http://ww1.microchip.com/downloads/en/DeviceDoc/21439C.pdf; ComponentLink3Description: Package Specification; ComponentLink3URL: http://www.microchip.com/stellent/groups/techpub_sg/documents/packagingspec/en012702.pdf
footprint SOIC-OA8_N (SOIC, 8-Leads, Body 4.9x3.9mm, Pitch 1.27mm, IPC Medium Density)
footprint SOIC-OA8_L (SOIC, 8-Leads, Body 4.9x3.9mm, Pitch 1.27mm, IPC High Density)
footprint SOIC-OA8_M (SOIC, 8-Leads, Body 4.9x3.9mm, Pitch 1.27mm, IPC Low Density)
pins: 1 NC, 2 LOW SET (in), 3 HIGH SET (in), 4 GND (power), 5 CTRL (out), 6 HIGH LIM (out), 7 LOW LIM (out), 8 VDD (power)

## TC620CEPA
designator U?
5V, Dual Trip Point Temperature Sensor, 8-Pin PDIP, Industrial Temperature; Manufacturer: Microchip; PartNumber: TC620CEPA; DatasheetVersion: revC, Oct-2005; PackageVersion: revBB, Aug-2009; PackageReference: PDIP300-PA8; PackageDescription: 8-Lead Plastic Dual In-Line (PA) - 300 mil Body [PDIP]; Supplier 1: Digi-Key; Supplier Part Number 1: TC620CEPA-ND; Mounting Technology: Through Hole; Code_JEDEC: MS-001-BA; ComponentLink1Description: Manufacturer URL; ComponentLink1URL: http://www.microchip.com/; ComponentLink2Description: Datasheet; ComponentLink2URL: http://ww1.microchip.com/downloads/en/DeviceDoc/21439C.pdf; ComponentLink3Description: Package Specification; ComponentLink3URL: http://www.microchip.com/stellent/groups/techpub_sg/documents/packagingspec/en012702.pdf
footprint PDIP300-PA8 (DIP, 8-Leads, Row Spacing 7.62mm, Pitch 2.54mm, Body 9.5x6.6mm)
pins: 1 NC, 2 LOW SET (in), 3 HIGH SET (in), 4 GND (power), 5 CTRL (out), 6 LOW LIM (out), 7 HIGH LIM (out), 8 VDD (power)

## TC620CVOA
designator U?
5V, Dual Trip Point Temperature Sensor, 8-Pin SOIC, Extended Temperature; Manufacturer: Microchip; PartNumber: TC620CVOA; DatasheetVersion: revC, Oct-2005; PackageVersion: revBB, Aug-2009; PackageReference: SOIC-OA8; PackageDescription: 8-Lead Plastic Small Outline (OA) - Narrow, 3.90mm Body [SOIC]; Supplier 1: Digi-Key; Supplier Part Number 1: TC620CVOA-ND; Mounting Technology: Surface Mount; Code_IPC: SOIC127P600-8; ComponentLink1Description: Manufacturer URL; ComponentLink1URL: http://www.microchip.com/; ComponentLink2Description: Datasheet; ComponentLink2URL: http://ww1.microchip.com/downloads/en/DeviceDoc/21439C.pdf; ComponentLink3Description: Package Specification; ComponentLink3URL: http://www.microchip.com/stellent/groups/techpub_sg/documents/packagingspec/en012702.pdf
footprint SOIC-OA8_N (SOIC, 8-Leads, Body 4.9x3.9mm, Pitch 1.27mm, IPC Medium Density)
footprint SOIC-OA8_L (SOIC, 8-Leads, Body 4.9x3.9mm, Pitch 1.27mm, IPC High Density)
footprint SOIC-OA8_M (SOIC, 8-Leads, Body 4.9x3.9mm, Pitch 1.27mm, IPC Low Density)
pins: 1 NC, 2 LOW SET (in), 3 HIGH SET (in), 4 GND (power), 5 CTRL (out), 6 HIGH LIM (out), 7 LOW LIM (out), 8 VDD (power)

## TC620CVOA713
designator U?
5V, Dual Trip Point Temperature Sensor, 8-Pin SOIC, Extended Temperature, Tape and Reel; Manufacturer: Microchip; PartNumber: TC620CVOA713; DatasheetVersion: revC, Oct-2005; PackageVersion: revBB, Aug-2009; PackageReference: SOIC-OA8; PackageDescription: 8-Lead Plastic Small Outline (OA) - Narrow, 3.90mm Body [SOIC]; Supplier 1: Digi-Key; Supplier Part Number 1: TC620CVOA713-ND; Mounting Technology: Surface Mount; Code_IPC: SOIC127P600-8; ComponentLink1Description: Manufacturer URL; ComponentLink1URL: http://www.microchip.com/; ComponentLink2Description: Datasheet; ComponentLink2URL: http://ww1.microchip.com/downloads/en/DeviceDoc/21439C.pdf; ComponentLink3Description: Package Specification; ComponentLink3URL: http://www.microchip.com/stellent/groups/techpub_sg/documents/packagingspec/en012702.pdf
footprint SOIC-OA8_N (SOIC, 8-Leads, Body 4.9x3.9mm, Pitch 1.27mm, IPC Medium Density)
footprint SOIC-OA8_L (SOIC, 8-Leads, Body 4.9x3.9mm, Pitch 1.27mm, IPC High Density)
footprint SOIC-OA8_M (SOIC, 8-Leads, Body 4.9x3.9mm, Pitch 1.27mm, IPC Low Density)
pins: 1 NC, 2 LOW SET (in), 3 HIGH SET (in), 4 GND (power), 5 CTRL (out), 6 HIGH LIM (out), 7 LOW LIM (out), 8 VDD (power)

## TC620HCOA
designator U?
5V, Dual Trip Point Temperature Sensor, 8-Pin SOIC, Commercial Temperature; Manufacturer: Microchip; PartNumber: TC620HCOA; DatasheetVersion: revC, Oct-2005; PackageVersion: revBB, Aug-2009; PackageReference: SOIC-OA8; PackageDescription: 8-Lead Plastic Small Outline (OA) - Narrow, 3.90mm Body [SOIC]; Supplier 1: Digi-Key; Supplier Part Number 1: TC620HCOA-ND; Mounting Technology: Surface Mount; Code_IPC: SOIC127P600-8; ComponentLink1Description: Manufacturer URL; ComponentLink1URL: http://www.microchip.com/; ComponentLink2Description: Datasheet; ComponentLink2URL: http://ww1.microchip.com/downloads/en/DeviceDoc/21439C.pdf; ComponentLink3Description: Package Specification; ComponentLink3URL: http://www.microchip.com/stellent/groups/techpub_sg/documents/packagingspec/en012702.pdf
footprint SOIC-OA8_N (SOIC, 8-Leads, Body 4.9x3.9mm, Pitch 1.27mm, IPC Medium Density)
footprint SOIC-OA8_L (SOIC, 8-Leads, Body 4.9x3.9mm, Pitch 1.27mm, IPC High Density)
footprint SOIC-OA8_M (SOIC, 8-Leads, Body 4.9x3.9mm, Pitch 1.27mm, IPC Low Density)
pins: 1 NC, 2 LOW SET (in), 3 HIGH SET (in), 4 GND (power), 5 CTRL (out), 6 HIGH LIM (out), 7 LOW LIM (out), 8 VDD (power)

## TC620HCOA713
designator U?
5V, Dual Trip Point Temperature Sensor, 8-Pin SOIC, Commercial Temperature, Tape and Reel; Manufacturer: Microchip; PartNumber: TC620HCOA713; DatasheetVersion: revC, Oct-2005; PackageVersion: revBB, Aug-2009; PackageReference: SOIC-OA8; PackageDescription: 8-Lead Plastic Small Outline (OA) - Narrow, 3.90mm Body [SOIC]; Supplier 1: Digi-Key; Supplier Part Number 1: TC620HCOA713-ND; Mounting Technology: Surface Mount; Code_IPC: SOIC127P600-8; ComponentLink1Description: Manufacturer URL; ComponentLink1URL: http://www.microchip.com/; ComponentLink2Description: Datasheet; ComponentLink2URL: http://ww1.microchip.com/downloads/en/DeviceDoc/21439C.pdf; ComponentLink3Description: Package Specification; ComponentLink3URL: http://www.microchip.com/stellent/groups/techpub_sg/documents/packagingspec/en012702.pdf
footprint SOIC-OA8_N (SOIC, 8-Leads, Body 4.9x3.9mm, Pitch 1.27mm, IPC Medium Density)
footprint SOIC-OA8_L (SOIC, 8-Leads, Body 4.9x3.9mm, Pitch 1.27mm, IPC High Density)
footprint SOIC-OA8_M (SOIC, 8-Leads, Body 4.9x3.9mm, Pitch 1.27mm, IPC Low Density)
pins: 1 NC, 2 LOW SET (in), 3 HIGH SET (in), 4 GND (power), 5 CTRL (out), 6 HIGH LIM (out), 7 LOW LIM (out), 8 VDD (power)

## TC620HCPA
designator U?
5V, Dual Trip Point Temperature Sensor, 8-Pin PDIP, Commercial Temperature; Manufacturer: Microchip; PartNumber: TC620HCPA; DatasheetVersion: revC, Oct-2005; PackageVersion: revBB, Aug-2009; PackageReference: PDIP300-PA8; PackageDescription: 8-Lead Plastic Dual In-Line (PA) - 300 mil Body [PDIP]; Supplier 1: Digi-Key; Supplier Part Number 1: TC620HCPA-ND; Mounting Technology: Through Hole; Code_JEDEC: MS-001-BA; ComponentLink1Description: Manufacturer URL; ComponentLink1URL: http://www.microchip.com/; ComponentLink2Description: Datasheet; ComponentLink2URL: http://ww1.microchip.com/downloads/en/DeviceDoc/21439C.pdf; ComponentLink3Description: Package Specification; ComponentLink3URL: http://www.microchip.com/stellent/groups/techpub_sg/documents/packagingspec/en012702.pdf
footprint PDIP300-PA8 (DIP, 8-Leads, Row Spacing 7.62mm, Pitch 2.54mm, Body 9.5x6.6mm)
pins: 1 NC, 2 LOW SET (in), 3 HIGH SET (in), 4 GND (power), 5 CTRL (out), 6 LOW LIM (out), 7 HIGH LIM (out), 8 VDD (power)

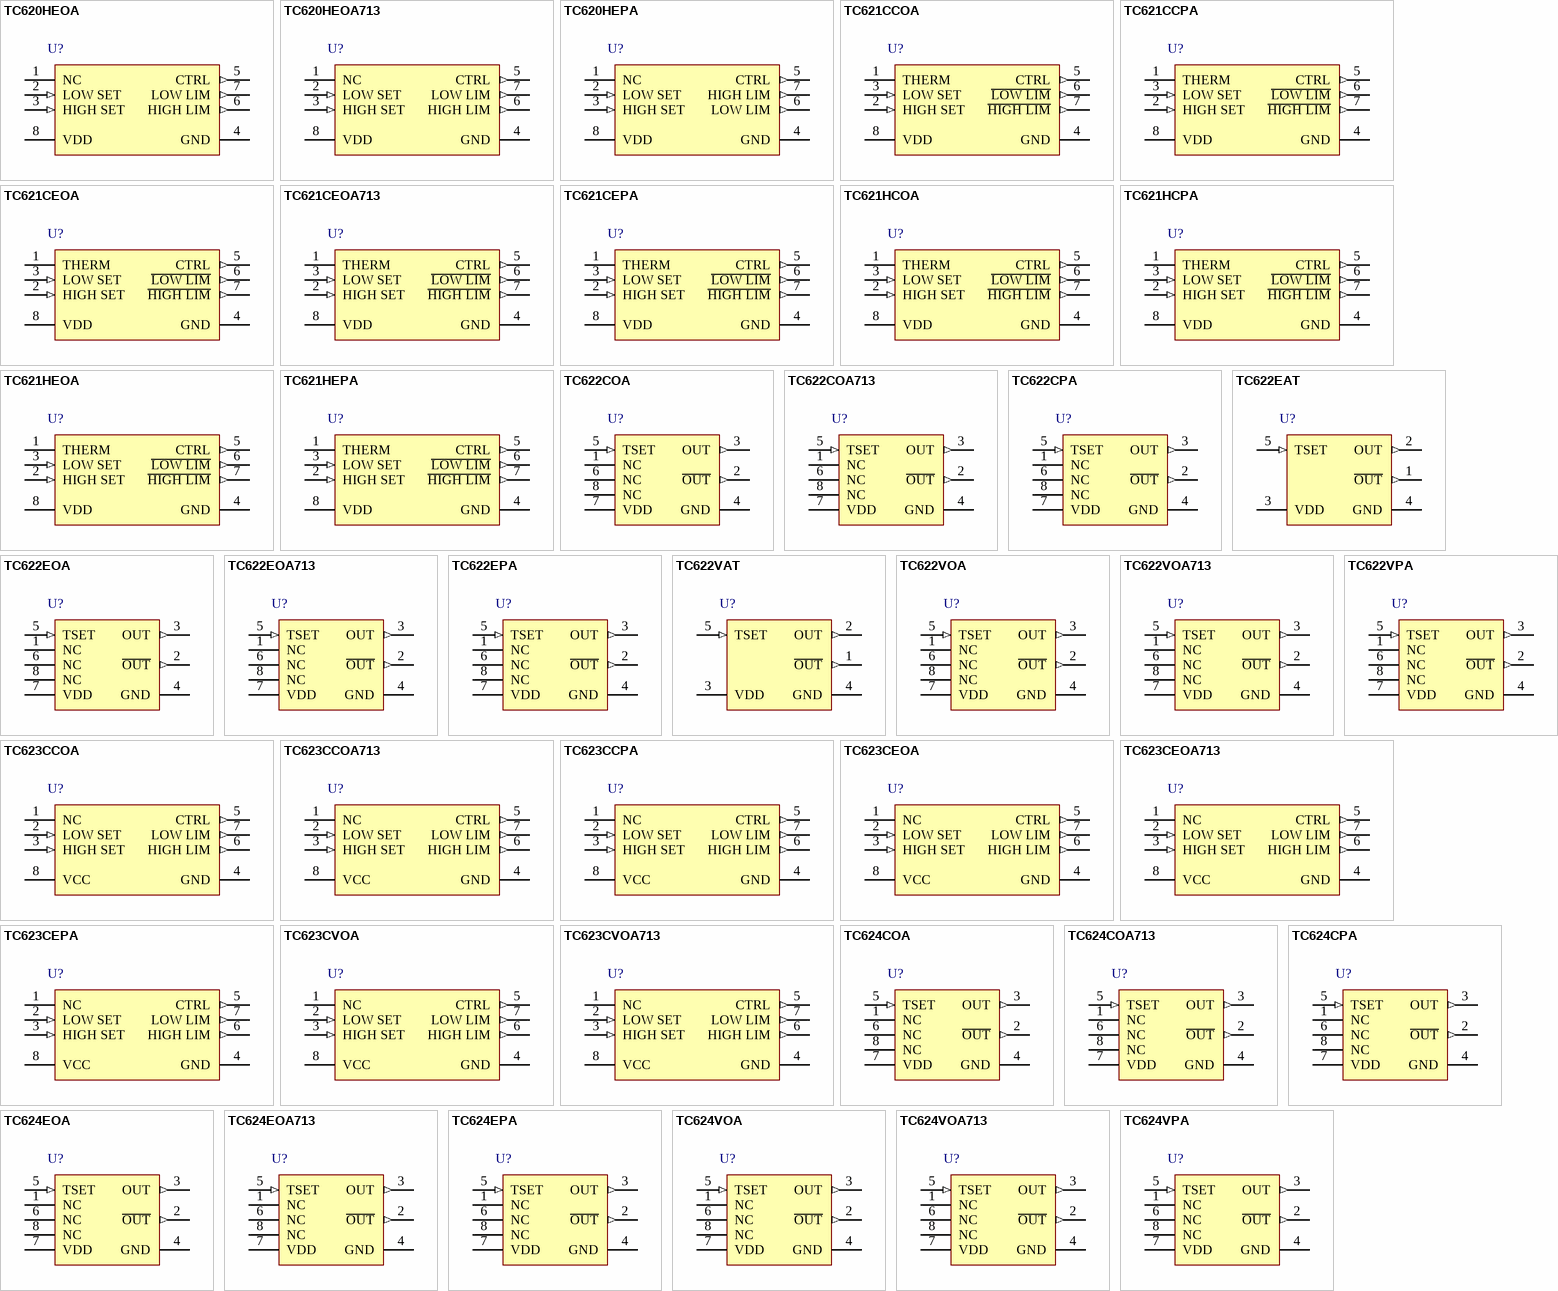
[diagram p4: symbols TC620HEOA to TC624VPA]

## TC620HEOA
designator U?
5V, Dual Trip Point Temperature Sensor, 8-Pin SOIC, Industrial Temperature; Manufacturer: Microchip; PartNumber: TC620HEOA; DatasheetVersion: revC, Oct-2005; PackageVersion: revBB, Aug-2009; PackageReference: SOIC-OA8; PackageDescription: 8-Lead Plastic Small Outline (OA) - Narrow, 3.90mm Body [SOIC]; Supplier 1: Digi-Key; Supplier Part Number 1: TC620HEOA-ND; Mounting Technology: Surface Mount; Code_IPC: SOIC127P600-8; ComponentLink1Description: Manufacturer URL; ComponentLink1URL: http://www.microchip.com/; ComponentLink2Description: Datasheet; ComponentLink2URL: http://ww1.microchip.com/downloads/en/DeviceDoc/21439C.pdf; ComponentLink3Description: Package Specification; ComponentLink3URL: http://www.microchip.com/stellent/groups/techpub_sg/documents/packagingspec/en012702.pdf
footprint SOIC-OA8_N (SOIC, 8-Leads, Body 4.9x3.9mm, Pitch 1.27mm, IPC Medium Density)
footprint SOIC-OA8_L (SOIC, 8-Leads, Body 4.9x3.9mm, Pitch 1.27mm, IPC High Density)
footprint SOIC-OA8_M (SOIC, 8-Leads, Body 4.9x3.9mm, Pitch 1.27mm, IPC Low Density)
pins: 1 NC, 2 LOW SET (in), 3 HIGH SET (in), 4 GND (power), 5 CTRL (out), 6 HIGH LIM (out), 7 LOW LIM (out), 8 VDD (power)

## TC620HEOA713
designator U?
5V, Dual Trip Point Temperature Sensor, 8-Pin SOIC, Industrial Temperature, Tape and Reel; Manufacturer: Microchip; PartNumber: TC620HEOA713; DatasheetVersion: revC, Oct-2005; PackageVersion: revBB, Aug-2009; PackageReference: SOIC-OA8; PackageDescription: 8-Lead Plastic Small Outline (OA) - Narrow, 3.90mm Body [SOIC]; Supplier 1: Digi-Key; Supplier Part Number 1: TC620HEOA713-ND; Mounting Technology: Surface Mount; Code_IPC: SOIC127P600-8; ComponentLink1Description: Manufacturer URL; ComponentLink1URL: http://www.microchip.com/; ComponentLink2Description: Datasheet; ComponentLink2URL: http://ww1.microchip.com/downloads/en/DeviceDoc/21439C.pdf; ComponentLink3Description: Package Specification; ComponentLink3URL: http://www.microchip.com/stellent/groups/techpub_sg/documents/packagingspec/en012702.pdf
footprint SOIC-OA8_N (SOIC, 8-Leads, Body 4.9x3.9mm, Pitch 1.27mm, IPC Medium Density)
footprint SOIC-OA8_L (SOIC, 8-Leads, Body 4.9x3.9mm, Pitch 1.27mm, IPC High Density)
footprint SOIC-OA8_M (SOIC, 8-Leads, Body 4.9x3.9mm, Pitch 1.27mm, IPC Low Density)
pins: 1 NC, 2 LOW SET (in), 3 HIGH SET (in), 4 GND (power), 5 CTRL (out), 6 HIGH LIM (out), 7 LOW LIM (out), 8 VDD (power)

## TC620HEPA
designator U?
5V, Dual Trip Point Temperature Sensor, 8-Pin PDIP, Industrial Temperature; Manufacturer: Microchip; PartNumber: TC620HEPA; DatasheetVersion: revC, Oct-2005; PackageVersion: revBB, Aug-2009; PackageReference: PDIP300-PA8; PackageDescription: 8-Lead Plastic Dual In-Line (PA) - 300 mil Body [PDIP]; Supplier 1: Digi-Key; Supplier Part Number 1: TC620HEPA-ND; Mounting Technology: Through Hole; Code_JEDEC: MS-001-BA; ComponentLink1Description: Manufacturer URL; ComponentLink1URL: http://www.microchip.com/; ComponentLink2Description: Datasheet; ComponentLink2URL: http://ww1.microchip.com/downloads/en/DeviceDoc/21439C.pdf; ComponentLink3Description: Package Specification; ComponentLink3URL: http://www.microchip.com/stellent/groups/techpub_sg/documents/packagingspec/en012702.pdf
footprint PDIP300-PA8 (DIP, 8-Leads, Row Spacing 7.62mm, Pitch 2.54mm, Body 9.5x6.6mm)
pins: 1 NC, 2 LOW SET (in), 3 HIGH SET (in), 4 GND (power), 5 CTRL (out), 6 LOW LIM (out), 7 HIGH LIM (out), 8 VDD (power)

## TC621CCOA
designator U?
5V, Dual Trip Point Temperature Sensor, 8-Pin SOIC, Commercial Temperature; Manufacturer: Microchip; PartNumber: TC621CCOA; DatasheetVersion: revC, Oct-2005; PackageVersion: revBB, Aug-2009; PackageReference: SOIC-OA8; PackageDescription: 8-Lead Plastic Small Outline (OA) - Narrow, 3.90mm Body [SOIC]; Supplier 1: Digi-Key; Supplier Part Number 1: TC621CCOA-ND; Mounting Technology: Surface Mount; Code_IPC: SOIC127P600-8; ComponentLink1Description: Manufacturer URL; ComponentLink1URL: http://www.microchip.com/; ComponentLink2Description: Datasheet; ComponentLink2URL: http://ww1.microchip.com/downloads/en/DeviceDoc/21439C.pdf; ComponentLink3Description: Package Specification; ComponentLink3URL: http://www.microchip.com/stellent/groups/techpub_sg/documents/packagingspec/en012702.pdf
footprint SOIC-OA8_N (SOIC, 8-Leads, Body 4.9x3.9mm, Pitch 1.27mm, IPC Medium Density)
footprint SOIC-OA8_L (SOIC, 8-Leads, Body 4.9x3.9mm, Pitch 1.27mm, IPC High Density)
footprint SOIC-OA8_M (SOIC, 8-Leads, Body 4.9x3.9mm, Pitch 1.27mm, IPC Low Density)
pins: 1 THERM, 2 HIGH SET (in), 3 LOW SET (in), 4 GND (power), 5 CTRL (out), 6 ~{LOW LIM} (out), 7 ~{HIGH LIM} (out), 8 VDD (power)

## TC621CCPA
designator U?
5V, Dual Trip Point Temperature Sensor, 8-Pin PDIP, Commercial Temperature; Manufacturer: Microchip; PartNumber: TC621CCPA; DatasheetVersion: revC, Oct-2005; PackageVersion: revBB, Aug-2009; PackageReference: PDIP300-PA8; PackageDescription: 8-Lead Plastic Dual In-Line (PA) - 300 mil Body [PDIP]; Supplier 1: Digi-Key; Supplier Part Number 1: TC621CCPA-ND; Mounting Technology: Through Hole; Code_JEDEC: MS-001-BA; ComponentLink1Description: Manufacturer URL; ComponentLink1URL: http://www.microchip.com/; ComponentLink2Description: Datasheet; ComponentLink2URL: http://ww1.microchip.com/downloads/en/DeviceDoc/21439C.pdf; ComponentLink3Description: Package Specification; ComponentLink3URL: http://www.microchip.com/stellent/groups/techpub_sg/documents/packagingspec/en012702.pdf
footprint PDIP300-PA8 (DIP, 8-Leads, Row Spacing 7.62mm, Pitch 2.54mm, Body 9.5x6.6mm)
pins: 1 THERM, 2 HIGH SET (in), 3 LOW SET (in), 4 GND (power), 5 CTRL (out), 6 ~{LOW LIM} (out), 7 ~{HIGH LIM} (out), 8 VDD (power)

## TC621CEOA
designator U?
5V, Dual Trip Point Temperature Sensor, 8-Pin SOIC, Industrial Temperature; Manufacturer: Microchip; PartNumber: TC621CEOA; DatasheetVersion: revC, Oct-2005; PackageVersion: revBB, Aug-2009; PackageReference: SOIC-OA8; PackageDescription: 8-Lead Plastic Small Outline (OA) - Narrow, 3.90mm Body [SOIC]; Supplier 1: Digi-Key; Supplier Part Number 1: TC621CEOA-ND; Mounting Technology: Surface Mount; Code_IPC: SOIC127P600-8; ComponentLink1Description: Manufacturer URL; ComponentLink1URL: http://www.microchip.com/; ComponentLink2Description: Datasheet; ComponentLink2URL: http://ww1.microchip.com/downloads/en/DeviceDoc/21439C.pdf; ComponentLink3Description: Package Specification; ComponentLink3URL: http://www.microchip.com/stellent/groups/techpub_sg/documents/packagingspec/en012702.pdf
footprint SOIC-OA8_N (SOIC, 8-Leads, Body 4.9x3.9mm, Pitch 1.27mm, IPC Medium Density)
footprint SOIC-OA8_L (SOIC, 8-Leads, Body 4.9x3.9mm, Pitch 1.27mm, IPC High Density)
footprint SOIC-OA8_M (SOIC, 8-Leads, Body 4.9x3.9mm, Pitch 1.27mm, IPC Low Density)
pins: 1 THERM, 2 HIGH SET (in), 3 LOW SET (in), 4 GND (power), 5 CTRL (out), 6 ~{LOW LIM} (out), 7 ~{HIGH LIM} (out), 8 VDD (power)

## TC621CEOA713
designator U?
5V, Dual Trip Point Temperature Sensor, 8-Pin SOIC, Industrial Temperature, Tape and Reel; Manufacturer: Microchip; PartNumber: TC621CEOA713; DatasheetVersion: revC, Oct-2005; PackageVersion: revBB, Aug-2009; PackageReference: SOIC-OA8; PackageDescription: 8-Lead Plastic Small Outline (OA) - Narrow, 3.90mm Body [SOIC]; Supplier 1: Digi-Key; Supplier Part Number 1: TC621CEOA713-ND; Mounting Technology: Surface Mount; Code_IPC: SOIC127P600-8; ComponentLink1Description: Manufacturer URL; ComponentLink1URL: http://www.microchip.com/; ComponentLink2Description: Datasheet; ComponentLink2URL: http://ww1.microchip.com/downloads/en/DeviceDoc/21439C.pdf; ComponentLink3Description: Package Specification; ComponentLink3URL: http://www.microchip.com/stellent/groups/techpub_sg/documents/packagingspec/en012702.pdf
footprint SOIC-OA8_N (SOIC, 8-Leads, Body 4.9x3.9mm, Pitch 1.27mm, IPC Medium Density)
footprint SOIC-OA8_L (SOIC, 8-Leads, Body 4.9x3.9mm, Pitch 1.27mm, IPC High Density)
footprint SOIC-OA8_M (SOIC, 8-Leads, Body 4.9x3.9mm, Pitch 1.27mm, IPC Low Density)
pins: 1 THERM, 2 HIGH SET (in), 3 LOW SET (in), 4 GND (power), 5 CTRL (out), 6 ~{LOW LIM} (out), 7 ~{HIGH LIM} (out), 8 VDD (power)

## TC621CEPA
designator U?
5V, Dual Trip Point Temperature Sensor, 8-Pin PDIP, Industrial Temperature; Manufacturer: Microchip; PartNumber: TC621CEPA; DatasheetVersion: revC, Oct-2005; PackageVersion: revBB, Aug-2009; PackageReference: PDIP300-PA8; PackageDescription: 8-Lead Plastic Dual In-Line (PA) - 300 mil Body [PDIP]; Supplier 1: Digi-Key; Supplier Part Number 1: TC621CEPA-ND; Mounting Technology: Through Hole; Code_JEDEC: MS-001-BA; ComponentLink1Description: Manufacturer URL; ComponentLink1URL: http://www.microchip.com/; ComponentLink2Description: Datasheet; ComponentLink2URL: http://ww1.microchip.com/downloads/en/DeviceDoc/21439C.pdf; ComponentLink3Description: Package Specification; ComponentLink3URL: http://www.microchip.com/stellent/groups/techpub_sg/documents/packagingspec/en012702.pdf
footprint PDIP300-PA8 (DIP, 8-Leads, Row Spacing 7.62mm, Pitch 2.54mm, Body 9.5x6.6mm)
pins: 1 THERM, 2 HIGH SET (in), 3 LOW SET (in), 4 GND (power), 5 CTRL (out), 6 ~{LOW LIM} (out), 7 ~{HIGH LIM} (out), 8 VDD (power)